# EAGLE library part LTC3677 (library PowerBoard)
LTC3677 Highly integrated portable product power management IC in 4mm x 7mm 44-pin QFN package Source: http://cds.linear.com/docs/Datasheet/36773f.pdf
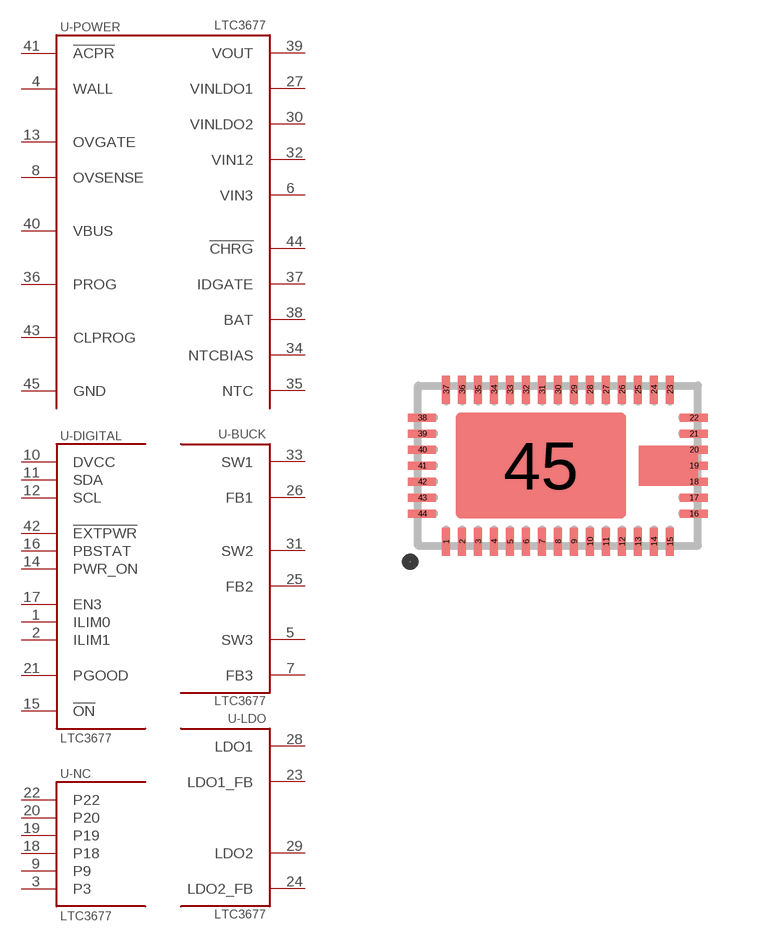
[diagram p1: symbol with the pads of QFN44-4X7; footprint QFN44-4X7]

Designator prefix U; gates -POWER=LTC3677_POWER -DIGITAL=LTC3677_DIGITAL -NC=LTC3677_NC -BUCK=LTC3677_BUCK -LDO=LTC3677_LDO

## LTC3677-3  [QFN44-4X7]
1  -DIGITAL:ILIM0  in
2  -DIGITAL:ILIM1  in
3  -NC:P3  nc
4  -POWER:WALL  pas
5  -BUCK:SW3  pas
6  -POWER:VIN3  pwr
7  -BUCK:FB3  pas
8  -POWER:OVSENSE  pas
9  -NC:P9  nc
10  -DIGITAL:DVCC  pwr
11  -DIGITAL:SDA  oc
12  -DIGITAL:SCL  in
13  -POWER:OVGATE  pas
14  -DIGITAL:PWR_ON  in
15  -DIGITAL:!ON  in
16  -DIGITAL:PBSTAT  out
17  -DIGITAL:EN3  in
18  -NC:P18  nc
19  -NC:P19  nc
20  -NC:P20  nc
21  -DIGITAL:PGOOD  oc
22  -NC:P22  nc
23  -LDO:LDO1_FB  pas
24  -LDO:LDO2_FB  pas
25  -BUCK:FB2  pas
26  -BUCK:FB1  pas
27  -POWER:VINLDO1  pwr
28  -LDO:LDO1  pas
29  -LDO:LDO2  pas
30  -POWER:VINLDO2  pwr
31  -BUCK:SW2  pas
32  -POWER:VIN12  pwr
33  -BUCK:SW1  pas
34  -POWER:NTCBIAS  pas
35  -POWER:NTC  pas
36  -POWER:PROG  pas
37  -POWER:IDGATE  pas
38  -POWER:BAT  pwr
39  -POWER:VOUT  pwr
40  -POWER:VBUS  pwr
41  -POWER:!ACPR  pas
42  -DIGITAL:!EXTPWR  out
43  -POWER:CLPROG  pas
44  -POWER:!CHRG  pas
45  -POWER:GND  pwr

## Footprint QFN44-4X7 (pad centres in mm)
QFN-44 4 x 7 mm 44-pin QFN package Source: http://cds.linear.com/docs/Datasheet/36773f.pdf Copyright © 2011 Vanderbilt University, ISIS
smd 0.2 x 0.7: 1 -2.8,-1.9; 2 -2.4,-1.9; 3 -2,-1.9; 4 -1.6,-1.9; 5 -1.2,-1.9; 6 -0.8,-1.9; 7 -0.4,-1.9; 8 0,-1.9; 9 0.4,-1.9; 10 0.8,-1.9; 11 1.2,-1.9; 12 1.6,-1.9; 13 2,-1.9; 14 2.4,-1.9; 15 2.8,-1.9; 23 2.8,1.9; 24 2.4,1.9; 25 2,1.9; 26 1.6,1.9; 27 1.2,1.9; 28 0.8,1.9; 29 0.4,1.9; 30 0,1.9; 31 -0.4,1.9; 32 -0.8,1.9; 33 -1.2,1.9; 34 -1.6,1.9; 35 -2,1.9; 36 -2.4,1.9; 37 -2.8,1.9
smd 0.7 x 0.2: 16 3.4,-1.2; 17 3.4,-0.8; 18 3.4,-0.4; 19 3.4,0; 20 3.4,0.4; 21 3.4,0.8; 22 3.4,1.2; 38 -3.4,1.2; 39 -3.4,0.8; 40 -3.4,0.4; 41 -3.4,0; 42 -3.4,-0.4; 43 -3.4,-0.8; 44 -3.4,-1.2
smd 4.26 x 2.64: 45 -0.43,0